# Altium footprint library JTAG_Header_7X2_Sullins_SBH11-NBPC-D07-SM-BK.PcbLib: 1 footprints
Each footprint in its own frame and in the unit in brackets; x right, y up, seen from the top. Pads: shape width x height; smd on the part's side, far side on the other; paste and mask are expansions set on the pad; w line width, h text height; cw(c..) or ccw(c..) is an arc to the next point about the centre after c.
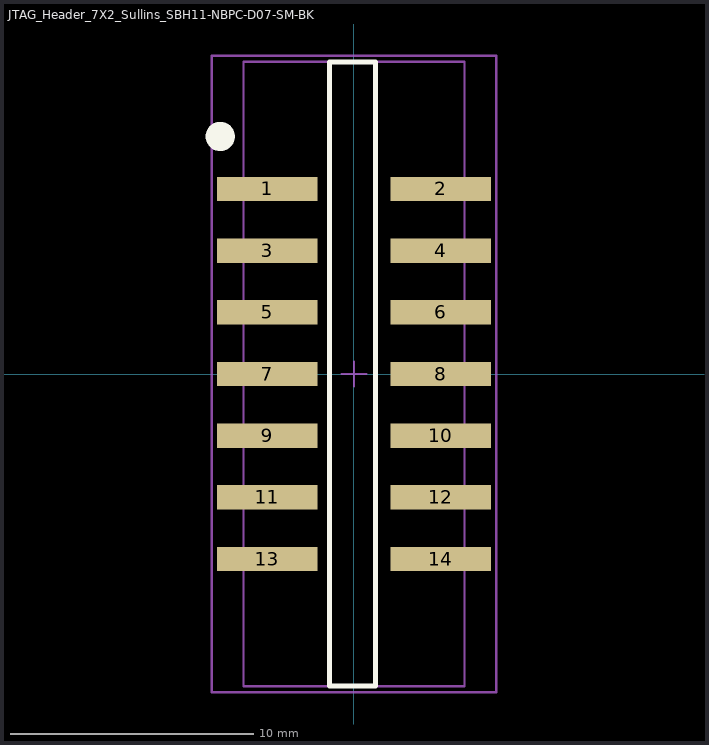
[diagram p0: the footprint, top view; thin cyan lines are the x and y axes]

## JTAG_Header_7X2_Sullins_SBH11-NBPC-D07-SM-BK [mm]
height 8.8
pads (14):
  rect 4.15x1 smd: 1(-3.575,7.62) 2(3.575,7.62) 3(-3.575,5.08) 4(3.575,5.08) 5(-3.575,2.54) 6(3.575,2.54) 7(-3.575,0) 8(3.575,0) 9(-3.575,-2.54) 10(3.575,-2.54) 11(-3.575,-5.08) 12(3.575,-5.08) 13(-3.575,-7.62) 14(3.575,-7.62)
Top Overlay:
  circle w0.6: c-5.507,9.779 r0.3
  lines w0.2: -1.016,-12.85 -1.016,12.85 0.889,12.85 0.889,-12.85 -1.016,-12.85
Mechanical 13:
  lines w0.1: -4.55,-12.85 -4.55,12.85 4.55,12.85 4.55,-12.85 -4.55,-12.85
Mechanical 15:
  lines w0.1: -0.5,0 0.5,0 ; 0,-0.5 0,0.5 ; -5.85,-13.1 -5.85,13.1 5.85,13.1 5.85,-13.1 -5.85,-13.1
3D body: height 8.8, standoff 0, extent -4.55,-12.85 4.55,12.85